# Altium schematic symbol library RCD-24-0.70.SchLib: 1 symbol
Pins are listed as number, name and electrical type; pins without a type are passive.

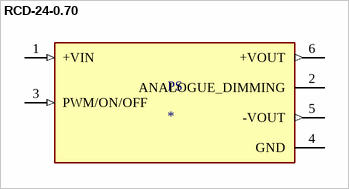
[diagram p0: symbol RCD-24-0.70]

## RCD-24-0.70
designator PS
0.7A LED-Driver 'LIGHTLINE' DIP reg; MP: RCD-24-0.70; MF: Recom Power; Value: *; Availability: Unavailable; Price: None; Package: DIP-6 Recom Power; SnapEDA_Link: https://www.snapeda.com/parts/RCD-24-0.70/Recom%20Power/view-part/424950/?ref=snap
footprint CONV_RCD-24-0.70
pins: 1 +VIN (in), 2 ANALOGUE_DIMMING, 3 PWM/ON/OFF (in), 4 GND (power), 5 -VOUT (out), 6 +VOUT (out)